# Altium footprint library TempLibrary.PcbLib: 12 footprints
Each footprint in its own frame and in the unit in brackets; x right, y up, seen from the top. Pads: shape width x height; smd on the part's side, far side on the other; paste and mask are expansions set on the pad; w line width, h text height; cw(c..) or ccw(c..) is an arc to the next point about the centre after c.
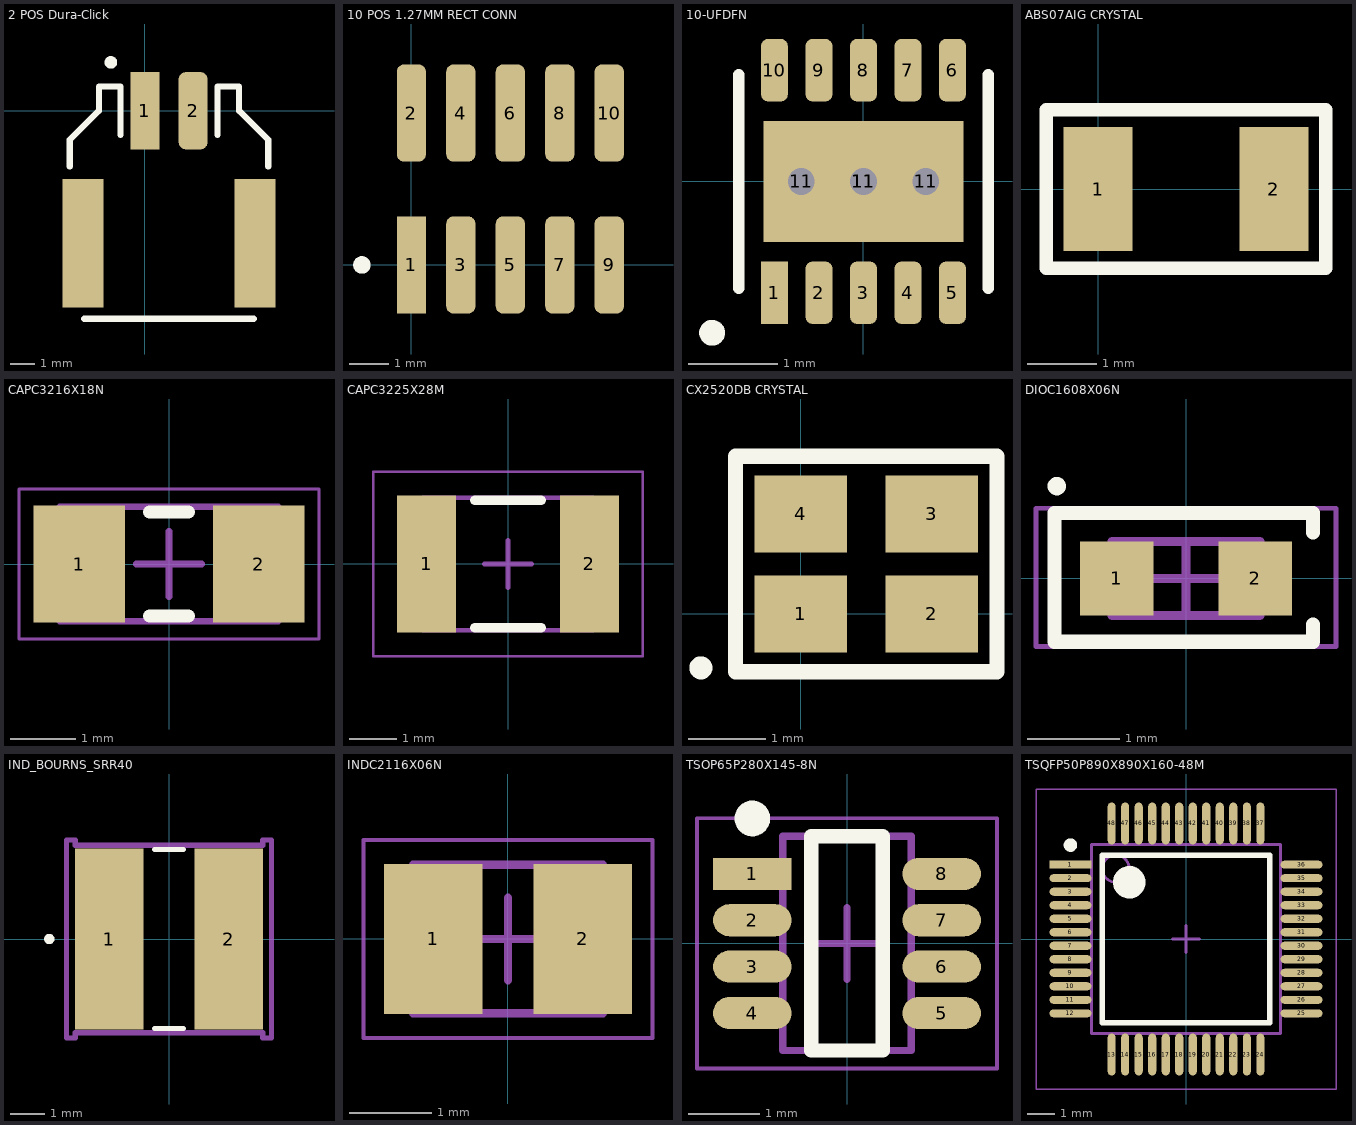
[diagram p0: the footprints below, top view; thin cyan lines are the x and y axes]

## 2 POS Dura-Click [mm] "WM7169CT-ND"
pads (4):
  rect 1.2x3.2 smd: 1(0,0)
  rrect50% 1.2x3.2 smd: 2(2,0)
  rect 1.7x5.3 smd: ""(-2.55,-5.48) ""(4.55,-5.48)
Top Overlay:
  circle w0.26: c-1.4,2 r0.13
  lines w0.254: -3.1,-2.3 -3.1,-1.2 -1.9,0 -1.9,1 -1,1 -1,-1 ; -2.5,-8.6 4.5,-8.6 ; 3,-1 3,1 3.9,1 3.9,0 5.1,-1.2 5.1,-2.3
3D body "5023520200.stp": height 6.39, standoff -0.01, extent -3,-8.4 5,1

## 10 POS 1.27MM RECT CONN [mm] "Amphenol 10 Positions Header Connector 0.050\" (1.27mm) Surface Mount Gold"
pads (10):
  rect 0.75x2.5 smd: 1(0,0)
  rrect50% 0.75x2.5 smd: 2(0,3.9) 3(1.27,0) 4(1.27,3.9) 5(2.54,0) 6(2.54,3.9) 7(3.81,0) 8(3.81,3.9) 9(5.08,0) 10(5.08,3.9)
Top Overlay:
  circle w0.25: c-1.27,0 r0.1
3D body "20021121-00010XXLFc.stp": height 4.5, standoff 0, extent -0.635,-0.845 5.715,4.655

## 10-UFDFN [mm]
pads (14):
  rect 0.3x0.7 smd: 1(-1,-1.25)
  rrect50% 0.3x0.7 smd: 2(-0.5,-1.25) 3(0,-1.25) 4(0.5,-1.25) 5(1,-1.25) 6(1,1.25) 7(0.5,1.25) 8(0,1.25) 9(-0.5,1.25) 10(-1,1.25)
  round 0.6 hole 0.3: 11(-0.7,0) 11(0,0) 11(0.7,0)
  rect 2.25x1.36 smd paste-0.2: 11(0,0)
Top Overlay:
  circle w0.15: c-1.7,-1.7 r0.07
  lines w0.127: -1.4,-1.2 -1.4,1.2 ; 1.4,-1.2 1.4,1.2
3D body: height 0.6, standoff 0, extent -1.275,-1.275 1.275,1.275

## ABS07AIG CRYSTAL [mm]
pads (2):
  rect 1x1.8 smd: 1(0,0) 2(2.55,0)
Top Overlay:
  lines w0.2: -0.75,-1.15 3.3,-1.15 3.3,1.15 -0.75,1.15 -0.75,-1.15
3D body "ABS07.STEP": height 0.89, standoff 0, extent -0.325,-0.749 2.875,0.749

## CAPC3216X18N [mm] "Chip Capacitor, 2-Leads, Body 3.20x1.60mm, IPC Medium Density"
height 1.8
pads (2):
  rect 1.4x1.8 smd: 1(-1.375,0) 2(1.375,0)
Top Overlay:
  lines w0.2: -0.3,-0.8 0.3,-0.8 ; -0.3,0.8 0.3,0.8
Mechanical 13:
  lines w0.1: -1.675,-0.875 -1.675,0.875 1.675,0.875 1.675,-0.875 -1.675,-0.875
Mechanical 15:
  lines w0.05: -2.3,-1.15 -2.3,1.15 2.3,1.15 2.3,-1.15 -2.3,-1.15
  lines w0.1: -0.5,0 0.5,0 ; 0,-0.5 0,0.5
3D body: height 1.8, standoff 0, extent -1.125,-0.875 1.125,0.875
3D body: height 1.8, standoff 0, extent -1.675,-0.875 -1.125,0.875
3D body: height 1.8, standoff 0, extent 1.125,-0.875 1.675,0.875

## CAPC3225X28M [mm] "Chip Capacitor, 2-Leads, Body 3.20x2.50mm, IPC Low Density"
height 2.8
pads (2):
  rect 1.25x2.9 smd: 1(-1.725,0) 2(1.725,0)
Top Overlay:
  lines w0.2: -0.7,-1.35 0.7,-1.35 ; -0.7,1.35 0.7,1.35
Mechanical 13:
  lines w0.1: -1.8,-1.4 1.8,-1.4 1.8,1.4 -1.8,1.4 -1.8,-1.4
Mechanical 15:
  lines w0.05: -2.85,-1.95 2.85,-1.95 2.85,1.95 -2.85,1.95 -2.85,-1.95
  lines w0.1: -0.5,0 0.5,0 ; 0,-0.5 0,0.5
3D body "CAPC3225X28M.step": height 2.8, standoff 0, extent -1.8,-1.4 1.8,1.4

## CX2520DB CRYSTAL [mm]
pads (4):
  rect 1.2x1 smd: 1(0,0) 2(1.7,0) 3(1.7,1.3) 4(0,1.3)
Top Overlay:
  circle w0.2: c-1.3,-0.7 r0.05
  lines w0.2: -0.85,-0.75 2.55,-0.75 2.55,2.05 -0.85,2.05 -0.85,-0.75
3D body: height 0.5, standoff 0, extent -0.4,-0.35 2.1,1.65

## DIOC1608X06N [mm] "Chip Diode, 2-Leads, Body 1.60x0.80mm, IPC Medium Density"
height 0.7
pads (2):
  rect 0.8x0.8 smd: 1(-0.75,0) 2(0.75,0)
Top Overlay:
  circle w0.1: c-1.4,1 r0.05
  lines w0.152: 1.375,-0.5 1.375,-0.686 -1.422,-0.686 -1.422,0.711 1.375,0.711 1.375,0.5
Mechanical 13:
  rectangle: 0.585,-0.4 0.8,0.4
  lines w0.1: -0.8,-0.4 0.8,-0.4 0.8,0.4 -0.8,0.4 -0.8,-0.4
Mechanical 15:
  lines w0.05: -1.625,-0.737 1.625,-0.737 1.625,0.762 -1.625,0.762 -1.625,-0.737
  lines w0.1: -0.4,0 0.4,0 ; 0,-0.4 0,0.4
3D body: height 0.3, standoff 0, extent -0.8,-0.4 0.8,0.4
3D body: height 0.8, standoff 0.3, extent -0.508,-0.305 0.508,0.305

## IND_BOURNS_SRR40 [mil]
pads (2):
  rect 79x209 smd: 1(-69,0) 2(69,0)
Top Overlay:
  circle w6: c-138.5,0 r3
  lines w6: -16.4,-103.5 16.4,-103.5 ; -16.4,103.5 16.4,103.5
Mechanical 13:
  circle w0: c-95.5,0 r3
Mechanical 15:
  lines w6: -118.5,-114.5 -118.5,114.5 -108.5,114.5 -108.5,108.5 108.5,108.5 108.5,114.5 118.5,114.5 118.5,-114.5 108.5,-114.5 108.5,-108.5 -108.5,-108.5 -108.5,-114.5 -118.5,-114.5
3D body "IND_BOURNS_SRR4018.stp": height 79, standoff 0, extent -98.5,-104.5 98.5,104.5

## INDC2116X06N [mm] "Chip Inductor, 2-Leads, Body 2.10x1.60mm, IPC Medium Density"
height 0.6
pads (2):
  rect 1.19x1.82 smd: 1(-0.905,0) 2(0.905,0)
Mechanical 13:
  lines w0.1: -1.15,-0.9 1.15,-0.9 1.15,0.9 -1.15,0.9 -1.15,-0.9
Mechanical 15:
  lines w0.05: -1.75,-1.2 1.75,-1.2 1.75,1.2 -1.75,1.2 -1.75,-1.2
  lines w0.1: -0.5,0 0.5,0 ; 0,-0.5 0,0.5
3D body "INDC2116X06N.step": height 0.6, standoff 0, extent -1.15,-0.9 1.15,0.9

## TSOP65P280X145-8N [mm] "TSOP, 8-Leads, Body 2.90x1.60mm, Pitch 0.65mm, IPC Medium Density"
height 1.45
pads (8):
  rect 1.1x0.45 smd: 1(-1.325,0.975)
  oval 1.1x0.45 smd: 2(-1.325,0.325) 3(-1.325,-0.325) 4(-1.325,-0.975) 5(1.325,-0.975) 6(1.325,-0.325) 7(1.325,0.325) 8(1.325,0.975)
Top Overlay:
  circle w0.25: c-1.325,1.75 r0.125
  lines w0.2: -0.5,-1.5 -0.5,1.5 0.5,1.5 0.5,-1.5 -0.5,-1.5
Mechanical 13:
  lines w0.1: -0.9,-1.5 -0.9,1.5 0.9,1.5 0.9,-1.5 -0.9,-1.5
Mechanical 15:
  lines w0.05: -2.1,-1.75 -2.1,1.75 2.1,1.75 2.1,-1.75 -2.1,-1.75
  lines w0.1: -0.5,0 0.5,0 ; 0,-0.5 0,0.5
3D body "TSOP65P280X145-8N.step": height 1.45, standoff 0.01, extent -1.393,-1.5 1.393,1.5

## TSQFP50P890X890X160-48M [mm] "TSQFP, 48-Leads, Body 7.00x7.00mm, Pitch 0.50mm, IPC Low Density"
height 1.6
pads (48):
  rect 1.55x0.3 smd: 1(-4.275,2.75)
  oval 1.55x0.3 smd: 2(-4.275,2.25) 3(-4.275,1.75) 4(-4.275,1.25) 5(-4.275,0.75) 6(-4.275,0.25) 7(-4.275,-0.25) 8(-4.275,-0.75) 9(-4.275,-1.25) 10(-4.275,-1.75) 11(-4.275,-2.25) 12(-4.275,-2.75) 25(4.275,-2.75) 26(4.275,-2.25) 27(4.275,-1.75) 28(4.275,-1.25) 29(4.275,-0.75) 30(4.275,-0.25) 31(4.275,0.25) 32(4.275,0.75) 33(4.275,1.25) 34(4.275,1.75) 35(4.275,2.25) 36(4.275,2.75)
  oval 0.3x1.55 smd: 13(-2.75,-4.275) 14(-2.25,-4.275) 15(-1.75,-4.275) 16(-1.25,-4.275) 17(-0.75,-4.275) 18(-0.25,-4.275) 19(0.25,-4.275) 20(0.75,-4.275) 21(1.25,-4.275) 22(1.75,-4.275) 23(2.25,-4.275) 24(2.75,-4.275) 37(2.75,4.275) 38(2.25,4.275) 39(1.75,4.275) 40(1.25,4.275) 41(0.75,4.275) 42(0.25,4.275) 43(-0.25,4.275) 44(-0.75,4.275) 45(-1.25,4.275) 46(-1.75,4.275) 47(-2.25,4.275) 48(-2.75,4.275)
Top Overlay:
  circle w0.25: c-4.275,3.475 r0.125
  circle w0.6: c-2.1,2.1 r0.3
  lines w0.2: -3.1,-3.1 -3.1,3.1 3.1,3.1 3.1,-3.1 -3.1,-3.1
Mechanical 13:
  circle w0.1: c-2.6,2.6 r0.5
  lines w0.1: -3.5,-3.5 -3.5,3.5 3.5,3.5 3.5,-3.5 -3.5,-3.5
Mechanical 15:
  lines w0.05: -5.55,-5.55 -5.55,5.55 5.55,5.55 5.55,-5.55 -5.55,-5.55
  lines w0.1: -0.5,0 0.5,0 ; 0,-0.5 0,0.5
3D body "TSQFP50P890X890X160-48M.step": height 1.6, standoff 0, extent -4.45,-4.45 4.45,4.45